# Altium footprint library XDCR_PEC11R-4120K-S0018.PcbLib: 1 footprints
Each footprint in its own frame and in the unit in brackets; x right, y up, seen from the top. Pads: shape width x height; smd on the part's side, far side on the other; paste and mask are expansions set on the pad; w line width, h text height; cw(c..) or ccw(c..) is an arc to the next point about the centre after c.
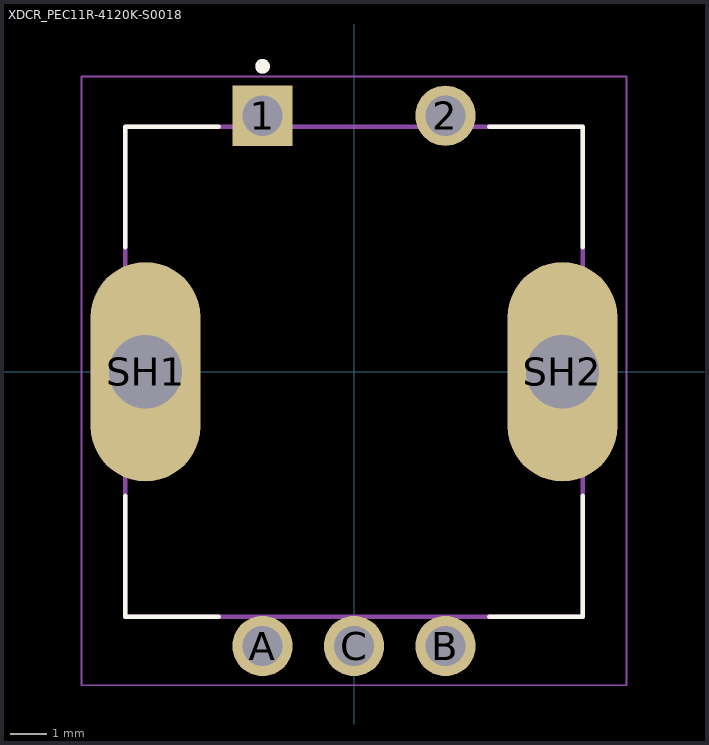
[diagram p0: the footprint, top view; thin cyan lines are the x and y axes]

## XDCR_PEC11R-4120K-S0018 [mm]
pads (7):
  rect 1.65x1.65 / inner round 1.65 / far side rect 1.65x1.65 hole 1.1 mask+0.102: 1(-2.5,7)
  round 1.65 hole 1.1 mask+0.102: 2(2.5,7) A(-2.5,-7.5) B(2.5,-7.5) C(0,-7.5)
  oval 3x6 hole 2 square mask+0.102: SH1(-5.7,0) SH2(5.7,0)
Top Overlay:
  circle w0.2: c-2.5,8.35 r0.1
  lines w0.127: -6.25,-3.4 -6.25,-6.7 -3.7,-6.7 ; -6.25,3.4 -6.25,6.7 -3.7,6.7 ; 3.7,-6.7 6.25,-6.7 6.25,-3.4 ; 3.7,6.7 6.25,6.7 6.25,3.4
Assembly Top:
  circle w0.2: c-2.5,8.35 r0.1
  lines w0.127: -6.25,-6.7 6.25,-6.7 6.25,6.7 -6.25,6.7 -6.25,-6.7
Courtyard Top:
  lines w0.05: -7.45,-8.575 -7.45,8.075 7.45,8.075 7.45,-8.575 -7.45,-8.575